# Altium schematic symbol library SLH28xx.Schlib: 1 symbol
Pins are listed as number, name and electrical type; pins without a type are passive.

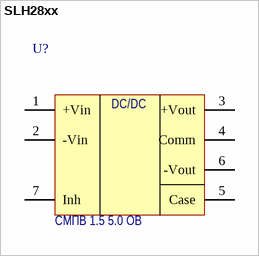
[diagram p0: symbol SLH28xx]

## SLH28xx
designator U?, comment Наименование: СМПВ 1.5 5.0 ОВ  (hidden comment: SMPV 1.5 5.0 OV)
DC-DC; Назначение: DC-DC преобразователь; Потребление, Вт: 0.1; ComponentLink1Description: DataSheet; ComponentLink1URL: https://www.interpoint.com/product_documents/SLH_Space_DC_DC_Converters.pdf
footprint SLH28xx
pins: 1 +Vin (power), 2 -Vin (power), 3 +Vout (power), 4 Comm (power), 5 Case (power), 6 -Vout (power), 7 Inh
text: DC/DC